# EAGLE library part PC104_9X12 (library DSDEagleLibrary)
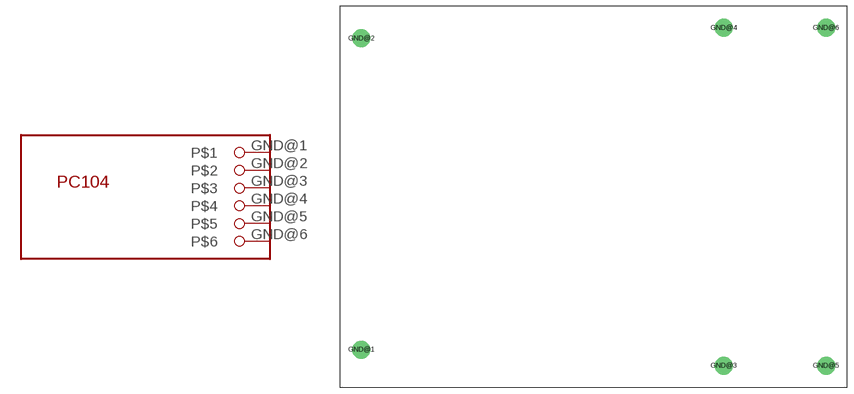
[diagram p3: symbol with the pads of PC104_9X12; footprint PC104_9X12]

Designator prefix -

## PC104_9X12  [PC104_9X12]
GND@1  P$1
GND@2  P$2
GND@3  P$3
GND@4  P$4
GND@5  P$5
GND@6  P$6

## Footprint PC104_9X12 (pad centres in mm)
drill 3.251 pad 4: GND@1 5.1,8.9; GND@2 5.1,82.6; GND@3 90.8,5.1; GND@4 90.8,85.1; GND@5 115,5.09; GND@6 115,85.11